# Altium schematic symbol library bobine.SchLib: 1 symbol
Pins are listed as number, name and electrical type; pins without a type are passive.

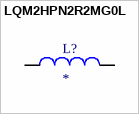
[diagram p0: symbol LQM2HPN2R2MG0L]

## LQM2HPN2R2MG0L
designator L?
Inductor with Inductance: 2.2uH Tol. +/-20%, Package: 1008 (2520); MF: Murata; MP: LQM2HPN2R2MG0L; Availability: In Stock; SnapEDA_Link: https://www.snapeda.com/parts/LQM2HPN2R2MG0L/Murata+Electronics+North+America/view-part/?ref=snap; Price: None; Check_prices: https://www.snapeda.com/parts/LQM2HPN2R2MG0L/Murata+Electronics+North+America/view-part/?ref=eda; Package: 2520 Murata; Value: *; Purchase-URL: https://pricing.snapeda.com/search/part/LQM2HPN2R2MG0L/?ref=eda
footprint INDC2520X100N
pins: 1, 2